# Altium schematic symbol library MCP454X.Schlib: 1 symbol
Pins are listed as number, name and electrical type; pins without a type are passive.

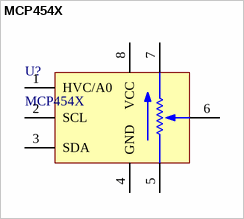
[diagram p0: symbol MCP454X]

## MCP454X
designator U?
pins: 1 HVC/A0, 2 SCL, 3 SDA, 4 GND, 5 P0A, 6 P0W, 7 P0B, 8 VCC